# Altium schematic symbol library SparkFun-Batteries.SCHLIB: 17 symbols
Pins are listed as number, name and electrical type; pins without a type are passive.

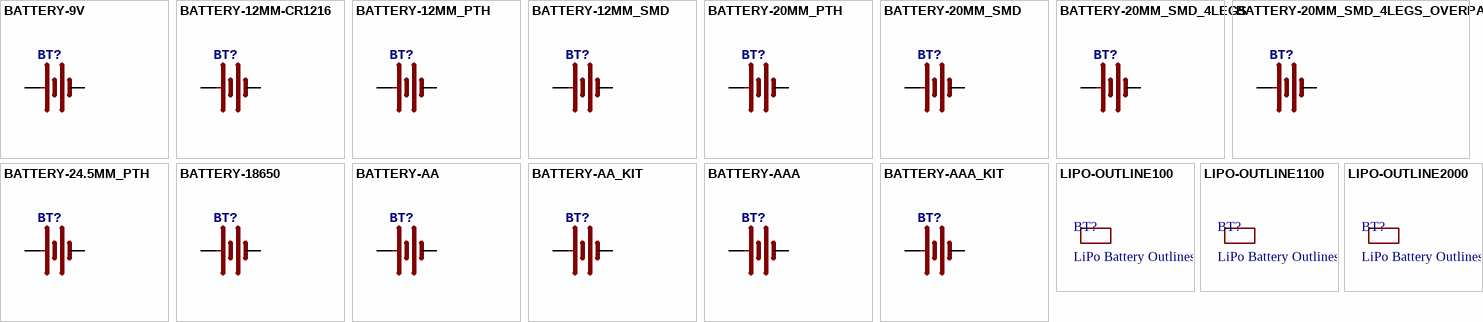
[diagram p0: symbols BATTERY-9V to LIPO-OUTLINE2000]

## BATTERY-9V
designator BT?, comment Battery - Single Cell    A variety of battery chemistries, sizes, and footprints.   Device List:  20MM_PTH -  Coin Cell Battery Holder - 20mm (PTH)  12MM_SMD -  Coin Cell Battery Holder - 12mm (SMD)  12MM_PTH - Coin Cell Battery Holder - 12mm (PTH)  20MM_SMD -  20mm Coin Cell Battery Holder (SMD) (2 legs)  Used on the Big Time Watch Kit     20MM_SMD_4LEGS -  Coin Cell Battery Holder - 20mm (SMD)  20MM_SMD_4LEGS_OVERPASTE -  Coin Cell Battery Holder - 20mm (SMD) (Over-paste on the legs)  24.5MM_PTH -  Coin Cell Battery Holder - 24.5mm (PTH)  9V -  9V Battery Holder - PC Mount   Used on the SparkFun SparkPunk Sound Kit  and SparkFun SparkPunk Sequencer Kit      18650 -  Battery Holder - 18650 (PTH)  AA -  Battery Holder - 1xAA (PTH)  AAA -  Battery Holder - 1xAAA (PTH)  AA_KIT -  Battery Holder - 1xAA (PTH)  Special kit package - pads only have exposed copper on one side of the board.     AAA_KIT -  Battery Holder - 1xAAA (PTH)  Special kit package - pads only have exposed copper on one side of the board.
PROD_ID: BATT-10855
footprint BATTCON_9V
pins: + (power), - (power)

## BATTERY-12MM-CR1216
designator BT?, comment Battery - Single Cell    A variety of battery chemistries, sizes, and footprints.   Device List:  20MM_PTH -  Coin Cell Battery Holder - 20mm (PTH)  12MM_SMD -  Coin Cell Battery Holder - 12mm (SMD)  12MM_PTH - Coin Cell Battery Holder - 12mm (PTH)  20MM_SMD -  20mm Coin Cell Battery Holder (SMD) (2 legs)  Used on the Big Time Watch Kit     20MM_SMD_4LEGS -  Coin Cell Battery Holder - 20mm (SMD)  20MM_SMD_4LEGS_OVERPASTE -  Coin Cell Battery Holder - 20mm (SMD) (Over-paste on the legs)  24.5MM_PTH -  Coin Cell Battery Holder - 24.5mm (PTH)  9V -  9V Battery Holder - PC Mount   Used on the SparkFun SparkPunk Sound Kit  and SparkFun SparkPunk Sequencer Kit      18650 -  Battery Holder - 18650 (PTH)  AA -  Battery Holder - 1xAA (PTH)  AAA -  Battery Holder - 1xAAA (PTH)  AA_KIT -  Battery Holder - 1xAA (PTH)  Special kit package - pads only have exposed copper on one side of the board.     AAA_KIT -  Battery Holder - 1xAAA (PTH)  Special kit package - pads only have exposed copper on one side of the board.
PROD_ID: BATT-08315; SF_SKU: PRT-07948
footprint BATTERY-12MM
pins: 1 + (power), 2 - (power)

## BATTERY-12MM_PTH
designator BT?, comment Battery - Single Cell    A variety of battery chemistries, sizes, and footprints.   Device List:  20MM_PTH -  Coin Cell Battery Holder - 20mm (PTH)  12MM_SMD -  Coin Cell Battery Holder - 12mm (SMD)  12MM_PTH - Coin Cell Battery Holder - 12mm (PTH)  20MM_SMD -  20mm Coin Cell Battery Holder (SMD) (2 legs)  Used on the Big Time Watch Kit     20MM_SMD_4LEGS -  Coin Cell Battery Holder - 20mm (SMD)  20MM_SMD_4LEGS_OVERPASTE -  Coin Cell Battery Holder - 20mm (SMD) (Over-paste on the legs)  24.5MM_PTH -  Coin Cell Battery Holder - 24.5mm (PTH)  9V -  9V Battery Holder - PC Mount   Used on the SparkFun SparkPunk Sound Kit  and SparkFun SparkPunk Sequencer Kit      18650 -  Battery Holder - 18650 (PTH)  AA -  Battery Holder - 1xAA (PTH)  AAA -  Battery Holder - 1xAAA (PTH)  AA_KIT -  Battery Holder - 1xAA (PTH)  Special kit package - pads only have exposed copper on one side of the board.     AAA_KIT -  Battery Holder - 1xAAA (PTH)  Special kit package - pads only have exposed copper on one side of the board.
PROD_ID: BATT-08315; SF_SKU: PRT-07948
footprint BATTCON_12MM_PTH
pins: GND - (power), VCC@1 + (power)

## BATTERY-12MM_SMD
designator BT?, comment Battery - Single Cell    A variety of battery chemistries, sizes, and footprints.   Device List:  20MM_PTH -  Coin Cell Battery Holder - 20mm (PTH)  12MM_SMD -  Coin Cell Battery Holder - 12mm (SMD)  12MM_PTH - Coin Cell Battery Holder - 12mm (PTH)  20MM_SMD -  20mm Coin Cell Battery Holder (SMD) (2 legs)  Used on the Big Time Watch Kit     20MM_SMD_4LEGS -  Coin Cell Battery Holder - 20mm (SMD)  20MM_SMD_4LEGS_OVERPASTE -  Coin Cell Battery Holder - 20mm (SMD) (Over-paste on the legs)  24.5MM_PTH -  Coin Cell Battery Holder - 24.5mm (PTH)  9V -  9V Battery Holder - PC Mount   Used on the SparkFun SparkPunk Sound Kit  and SparkFun SparkPunk Sequencer Kit      18650 -  Battery Holder - 18650 (PTH)  AA -  Battery Holder - 1xAA (PTH)  AAA -  Battery Holder - 1xAAA (PTH)  AA_KIT -  Battery Holder - 1xAA (PTH)  Special kit package - pads only have exposed copper on one side of the board.     AAA_KIT -  Battery Holder - 1xAAA (PTH)  Special kit package - pads only have exposed copper on one side of the board.
PROD_ID: BATT-08044; SF_SKU: PRT-10592
footprint BATTCON_12MM
pins: GND - (power), PWR@1 + (power)

## BATTERY-20MM_PTH
designator BT?, comment Battery - Single Cell    A variety of battery chemistries, sizes, and footprints.   Device List:  20MM_PTH -  Coin Cell Battery Holder - 20mm (PTH)  12MM_SMD -  Coin Cell Battery Holder - 12mm (SMD)  12MM_PTH - Coin Cell Battery Holder - 12mm (PTH)  20MM_SMD -  20mm Coin Cell Battery Holder (SMD) (2 legs)  Used on the Big Time Watch Kit     20MM_SMD_4LEGS -  Coin Cell Battery Holder - 20mm (SMD)  20MM_SMD_4LEGS_OVERPASTE -  Coin Cell Battery Holder - 20mm (SMD) (Over-paste on the legs)  24.5MM_PTH -  Coin Cell Battery Holder - 24.5mm (PTH)  9V -  9V Battery Holder - PC Mount   Used on the SparkFun SparkPunk Sound Kit  and SparkFun SparkPunk Sequencer Kit      18650 -  Battery Holder - 18650 (PTH)  AA -  Battery Holder - 1xAA (PTH)  AAA -  Battery Holder - 1xAAA (PTH)  AA_KIT -  Battery Holder - 1xAA (PTH)  Special kit package - pads only have exposed copper on one side of the board.     AAA_KIT -  Battery Holder - 1xAAA (PTH)  Special kit package - pads only have exposed copper on one side of the board.
PROD_ID: BATT-09031; SF_SKU: PRT-00783
footprint BATTCOM_20MM_PTH
pins: 1 + (power), 2 - (power)

## BATTERY-20MM_SMD
designator BT?, comment Battery - Single Cell    A variety of battery chemistries, sizes, and footprints.   Device List:  20MM_PTH -  Coin Cell Battery Holder - 20mm (PTH)  12MM_SMD -  Coin Cell Battery Holder - 12mm (SMD)  12MM_PTH - Coin Cell Battery Holder - 12mm (PTH)  20MM_SMD -  20mm Coin Cell Battery Holder (SMD) (2 legs)  Used on the Big Time Watch Kit     20MM_SMD_4LEGS -  Coin Cell Battery Holder - 20mm (SMD)  20MM_SMD_4LEGS_OVERPASTE -  Coin Cell Battery Holder - 20mm (SMD) (Over-paste on the legs)  24.5MM_PTH -  Coin Cell Battery Holder - 24.5mm (PTH)  9V -  9V Battery Holder - PC Mount   Used on the SparkFun SparkPunk Sound Kit  and SparkFun SparkPunk Sequencer Kit      18650 -  Battery Holder - 18650 (PTH)  AA -  Battery Holder - 1xAA (PTH)  AAA -  Battery Holder - 1xAAA (PTH)  AA_KIT -  Battery Holder - 1xAA (PTH)  Special kit package - pads only have exposed copper on one side of the board.     AAA_KIT -  Battery Holder - 1xAAA (PTH)  Special kit package - pads only have exposed copper on one side of the board.
PROD_ID: BATT-11519
footprint BATTCON_20MM
pins: 1 + (power), 2 - (power)

## BATTERY-20MM_SMD_4LEGS
designator BT?, comment Battery - Single Cell    A variety of battery chemistries, sizes, and footprints.   Device List:  20MM_PTH -  Coin Cell Battery Holder - 20mm (PTH)  12MM_SMD -  Coin Cell Battery Holder - 12mm (SMD)  12MM_PTH - Coin Cell Battery Holder - 12mm (PTH)  20MM_SMD -  20mm Coin Cell Battery Holder (SMD) (2 legs)  Used on the Big Time Watch Kit     20MM_SMD_4LEGS -  Coin Cell Battery Holder - 20mm (SMD)  20MM_SMD_4LEGS_OVERPASTE -  Coin Cell Battery Holder - 20mm (SMD) (Over-paste on the legs)  24.5MM_PTH -  Coin Cell Battery Holder - 24.5mm (PTH)  9V -  9V Battery Holder - PC Mount   Used on the SparkFun SparkPunk Sound Kit  and SparkFun SparkPunk Sequencer Kit      18650 -  Battery Holder - 18650 (PTH)  AA -  Battery Holder - 1xAA (PTH)  AAA -  Battery Holder - 1xAAA (PTH)  AA_KIT -  Battery Holder - 1xAA (PTH)  Special kit package - pads only have exposed copper on one side of the board.     AAA_KIT -  Battery Holder - 1xAAA (PTH)  Special kit package - pads only have exposed copper on one side of the board.
PROD_ID: BATT-10373; SF_SKU: PRT-11892
footprint BATTCON_20MM_4LEGS
pins: NEGATIVE - (power), POSITIVE@1 POSITIVE@2 POSITIVE@3 POSITIVE@4 + (power)

## BATTERY-20MM_SMD_4LEGS_OVERPASTE
designator BT?, comment Battery - Single Cell    A variety of battery chemistries, sizes, and footprints.   Device List:  20MM_PTH -  Coin Cell Battery Holder - 20mm (PTH)  12MM_SMD -  Coin Cell Battery Holder - 12mm (SMD)  12MM_PTH - Coin Cell Battery Holder - 12mm (PTH)  20MM_SMD -  20mm Coin Cell Battery Holder (SMD) (2 legs)  Used on the Big Time Watch Kit     20MM_SMD_4LEGS -  Coin Cell Battery Holder - 20mm (SMD)  20MM_SMD_4LEGS_OVERPASTE -  Coin Cell Battery Holder - 20mm (SMD) (Over-paste on the legs)  24.5MM_PTH -  Coin Cell Battery Holder - 24.5mm (PTH)  9V -  9V Battery Holder - PC Mount   Used on the SparkFun SparkPunk Sound Kit  and SparkFun SparkPunk Sequencer Kit      18650 -  Battery Holder - 18650 (PTH)  AA -  Battery Holder - 1xAA (PTH)  AAA -  Battery Holder - 1xAAA (PTH)  AA_KIT -  Battery Holder - 1xAA (PTH)  Special kit package - pads only have exposed copper on one side of the board.     AAA_KIT -  Battery Holder - 1xAAA (PTH)  Special kit package - pads only have exposed copper on one side of the board.
PROD_ID: PRT-11892; SF_SKU: BATT-10373
footprint BATTCON_20MM_4LEGS_OVERPASTE
pins: 1 + (power), 2 - (power)

## BATTERY-24.5MM_PTH
designator BT?, comment Battery - Single Cell    A variety of battery chemistries, sizes, and footprints.   Device List:  20MM_PTH -  Coin Cell Battery Holder - 20mm (PTH)  12MM_SMD -  Coin Cell Battery Holder - 12mm (SMD)  12MM_PTH - Coin Cell Battery Holder - 12mm (PTH)  20MM_SMD -  20mm Coin Cell Battery Holder (SMD) (2 legs)  Used on the Big Time Watch Kit     20MM_SMD_4LEGS -  Coin Cell Battery Holder - 20mm (SMD)  20MM_SMD_4LEGS_OVERPASTE -  Coin Cell Battery Holder - 20mm (SMD) (Over-paste on the legs)  24.5MM_PTH -  Coin Cell Battery Holder - 24.5mm (PTH)  9V -  9V Battery Holder - PC Mount   Used on the SparkFun SparkPunk Sound Kit  and SparkFun SparkPunk Sequencer Kit      18650 -  Battery Holder - 18650 (PTH)  AA -  Battery Holder - 1xAA (PTH)  AAA -  Battery Holder - 1xAAA (PTH)  AA_KIT -  Battery Holder - 1xAA (PTH)  Special kit package - pads only have exposed copper on one side of the board.     AAA_KIT -  Battery Holder - 1xAAA (PTH)  Special kit package - pads only have exposed copper on one side of the board.
SF_SKU: PRT-08863
footprint BATTCON_24.5MM_PTH
pins: 2 - (power), 3 + (power)

## BATTERY-18650
designator BT?, comment Battery - Single Cell    A variety of battery chemistries, sizes, and footprints.   Device List:  20MM_PTH -  Coin Cell Battery Holder - 20mm (PTH)  12MM_SMD -  Coin Cell Battery Holder - 12mm (SMD)  12MM_PTH - Coin Cell Battery Holder - 12mm (PTH)  20MM_SMD -  20mm Coin Cell Battery Holder (SMD) (2 legs)  Used on the Big Time Watch Kit     20MM_SMD_4LEGS -  Coin Cell Battery Holder - 20mm (SMD)  20MM_SMD_4LEGS_OVERPASTE -  Coin Cell Battery Holder - 20mm (SMD) (Over-paste on the legs)  24.5MM_PTH -  Coin Cell Battery Holder - 24.5mm (PTH)  9V -  9V Battery Holder - PC Mount   Used on the SparkFun SparkPunk Sound Kit  and SparkFun SparkPunk Sequencer Kit      18650 -  Battery Holder - 18650 (PTH)  AA -  Battery Holder - 1xAA (PTH)  AAA -  Battery Holder - 1xAAA (PTH)  AA_KIT -  Battery Holder - 1xAA (PTH)  Special kit package - pads only have exposed copper on one side of the board.     AAA_KIT -  Battery Holder - 1xAAA (PTH)  Special kit package - pads only have exposed copper on one side of the board.
PROD_ID: BATT-12327; SF_SKU: PRT-13113
footprint BATTERY_18650-HOLDER
pins: GND@1 - (power), PWR@1 + (power)

## BATTERY-AA
designator BT?, comment Battery - Single Cell    A variety of battery chemistries, sizes, and footprints.   Device List:  20MM_PTH -  Coin Cell Battery Holder - 20mm (PTH)  12MM_SMD -  Coin Cell Battery Holder - 12mm (SMD)  12MM_PTH - Coin Cell Battery Holder - 12mm (PTH)  20MM_SMD -  20mm Coin Cell Battery Holder (SMD) (2 legs)  Used on the Big Time Watch Kit     20MM_SMD_4LEGS -  Coin Cell Battery Holder - 20mm (SMD)  20MM_SMD_4LEGS_OVERPASTE -  Coin Cell Battery Holder - 20mm (SMD) (Over-paste on the legs)  24.5MM_PTH -  Coin Cell Battery Holder - 24.5mm (PTH)  9V -  9V Battery Holder - PC Mount   Used on the SparkFun SparkPunk Sound Kit  and SparkFun SparkPunk Sequencer Kit      18650 -  Battery Holder - 18650 (PTH)  AA -  Battery Holder - 1xAA (PTH)  AAA -  Battery Holder - 1xAAA (PTH)  AA_KIT -  Battery Holder - 1xAA (PTH)  Special kit package - pads only have exposed copper on one side of the board.     AAA_KIT -  Battery Holder - 1xAAA (PTH)  Special kit package - pads only have exposed copper on one side of the board.
PROD_ID: BATT-08316; SF_SKU: PRT-07949
footprint BATTERY-AA
pins: GND@1 - (power), PWR@1 + (power)

## BATTERY-AA_KIT
designator BT?, comment Battery - Single Cell    A variety of battery chemistries, sizes, and footprints.   Device List:  20MM_PTH -  Coin Cell Battery Holder - 20mm (PTH)  12MM_SMD -  Coin Cell Battery Holder - 12mm (SMD)  12MM_PTH - Coin Cell Battery Holder - 12mm (PTH)  20MM_SMD -  20mm Coin Cell Battery Holder (SMD) (2 legs)  Used on the Big Time Watch Kit     20MM_SMD_4LEGS -  Coin Cell Battery Holder - 20mm (SMD)  20MM_SMD_4LEGS_OVERPASTE -  Coin Cell Battery Holder - 20mm (SMD) (Over-paste on the legs)  24.5MM_PTH -  Coin Cell Battery Holder - 24.5mm (PTH)  9V -  9V Battery Holder - PC Mount   Used on the SparkFun SparkPunk Sound Kit  and SparkFun SparkPunk Sequencer Kit      18650 -  Battery Holder - 18650 (PTH)  AA -  Battery Holder - 1xAA (PTH)  AAA -  Battery Holder - 1xAAA (PTH)  AA_KIT -  Battery Holder - 1xAA (PTH)  Special kit package - pads only have exposed copper on one side of the board.     AAA_KIT -  Battery Holder - 1xAAA (PTH)  Special kit package - pads only have exposed copper on one side of the board.
PROD_ID: BATT-08316; SF_SKU: PRT-07949
footprint BATTERY-AA-KIT
pins: GND@1 - (power), PWR@1 + (power)

## BATTERY-AAA
designator BT?, comment Battery - Single Cell    A variety of battery chemistries, sizes, and footprints.   Device List:  20MM_PTH -  Coin Cell Battery Holder - 20mm (PTH)  12MM_SMD -  Coin Cell Battery Holder - 12mm (SMD)  12MM_PTH - Coin Cell Battery Holder - 12mm (PTH)  20MM_SMD -  20mm Coin Cell Battery Holder (SMD) (2 legs)  Used on the Big Time Watch Kit     20MM_SMD_4LEGS -  Coin Cell Battery Holder - 20mm (SMD)  20MM_SMD_4LEGS_OVERPASTE -  Coin Cell Battery Holder - 20mm (SMD) (Over-paste on the legs)  24.5MM_PTH -  Coin Cell Battery Holder - 24.5mm (PTH)  9V -  9V Battery Holder - PC Mount   Used on the SparkFun SparkPunk Sound Kit  and SparkFun SparkPunk Sequencer Kit      18650 -  Battery Holder - 18650 (PTH)  AA -  Battery Holder - 1xAA (PTH)  AAA -  Battery Holder - 1xAAA (PTH)  AA_KIT -  Battery Holder - 1xAA (PTH)  Special kit package - pads only have exposed copper on one side of the board.     AAA_KIT -  Battery Holder - 1xAAA (PTH)  Special kit package - pads only have exposed copper on one side of the board.
PROD_ID: BATT-08571; SF_SKU: PRT-12718
footprint BATTERY-AAA
pins: GND@1 - (power), PWR@1 + (power)

## BATTERY-AAA_KIT
designator BT?, comment Battery - Single Cell    A variety of battery chemistries, sizes, and footprints.   Device List:  20MM_PTH -  Coin Cell Battery Holder - 20mm (PTH)  12MM_SMD -  Coin Cell Battery Holder - 12mm (SMD)  12MM_PTH - Coin Cell Battery Holder - 12mm (PTH)  20MM_SMD -  20mm Coin Cell Battery Holder (SMD) (2 legs)  Used on the Big Time Watch Kit     20MM_SMD_4LEGS -  Coin Cell Battery Holder - 20mm (SMD)  20MM_SMD_4LEGS_OVERPASTE -  Coin Cell Battery Holder - 20mm (SMD) (Over-paste on the legs)  24.5MM_PTH -  Coin Cell Battery Holder - 24.5mm (PTH)  9V -  9V Battery Holder - PC Mount   Used on the SparkFun SparkPunk Sound Kit  and SparkFun SparkPunk Sequencer Kit      18650 -  Battery Holder - 18650 (PTH)  AA -  Battery Holder - 1xAA (PTH)  AAA -  Battery Holder - 1xAAA (PTH)  AA_KIT -  Battery Holder - 1xAA (PTH)  Special kit package - pads only have exposed copper on one side of the board.     AAA_KIT -  Battery Holder - 1xAAA (PTH)  Special kit package - pads only have exposed copper on one side of the board.
PROD_ID: BATT-08571; SF_SKU: PRT-12718
footprint BATTERY-AAA-KIT
pins: GND@1 - (power), PWR@1 + (power)

## LIPO-OUTLINE100
designator BT?, comment LiPo Battery Outlines    Outlines for common LiPo batteries sold by SparkFun.   (Note: no terminals or connection points, just the dimensions.) SparkFun Products  Polymer Lithium Ion Battery - 110mAh (PRT-13853)  Polymer Lithium Ion Battery - 1000mAh (PRT-13813)  Polymer Lithium Ion Battery - 2000mAh (PRT-08483)
PROD_ID: BATT-13274; SF_SKU: PRT-13853
footprint LIPO-110

## LIPO-OUTLINE1100
designator BT?, comment LiPo Battery Outlines    Outlines for common LiPo batteries sold by SparkFun.   (Note: no terminals or connection points, just the dimensions.) SparkFun Products  Polymer Lithium Ion Battery - 110mAh (PRT-13853)  Polymer Lithium Ion Battery - 1000mAh (PRT-13813)  Polymer Lithium Ion Battery - 2000mAh (PRT-08483)
PROD_ID: BATT-13243; SF_SKU: PRT-13813
footprint LIPO-1000

## LIPO-OUTLINE2000
designator BT?, comment LiPo Battery Outlines    Outlines for common LiPo batteries sold by SparkFun.   (Note: no terminals or connection points, just the dimensions.) SparkFun Products  Polymer Lithium Ion Battery - 110mAh (PRT-13853)  Polymer Lithium Ion Battery - 1000mAh (PRT-13813)  Polymer Lithium Ion Battery - 2000mAh (PRT-08483)
PROD_ID: BATT-08764; SF_SKU: PRT-08483
footprint LIPO-2000